# Altium integrated library TSW-108-09-F-D.IntLib: 1 symbol
Pins are listed as number, name and electrical type; pins without a type are passive.

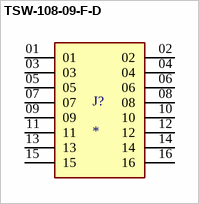
[diagram p0: symbol TSW-108-09-F-D]

## TSW-108-09-F-D
designator J?
MP: TSW-108-09-F-D; Package: None; Price: None; Value: *; Availability: Unavailable
footprint SAMTEC_TSW-108-09-F-D
pins: 01, 02, 03, 04, 05, 06, 07, 08, 09, 10, 11, 12, 13, 14, 15, 16